# Altium footprint library Hot-Swap_Solutions_PcbLib.PcbLib: 2 footprints
Each footprint in its own frame and in the unit in brackets; x right, y up, seen from the top. Pads: shape width x height; smd on the part's side, far side on the other; paste and mask are expansions set on the pad; w line width, h text height; cw(c..) or ccw(c..) is an arc to the next point about the centre after c.
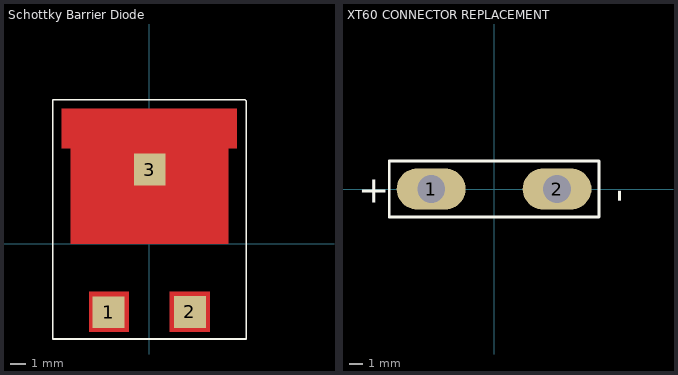
[diagram p0: the footprints below, top view; thin cyan lines are the x and y axes]

## Schottky Barrier Diode [mm]
pads (3):
  rect 2x2 smd: 1(-2.565,-4.293) 2(2.54,-4.267) 3(0.025,4.674)
Top Layer:
  region: 1.29,-3 3.79,-3 3.79,-5.5 1.29,-5.5
  region: -1.29,-3 -3.79,-3 -3.79,-5.5 -1.29,-5.5
  region: -4.95,0 -4.95,6 -5.5,6 -5.5,8.5 5.5,8.5 5.5,6 4.95,6 4.95,0
  pour cut-out: 3.4,3.8
  pour cut-out: 0.4,4.6
  region: 0.254,6.35
  pour cut-out: 3.4,3.8
  pour cut-out: 0.4,4.6
  region: 0.254,6.35
  pour cut-out: -0.483,5.029
  pour cut-out: 0.686,6.045
  region: -5.486,7.061
  region: -5.486,7.061
Top Overlay:
  lines w0.1: -6.071,-5.969 6.071,-5.969 6.071,8.992 6.02,9.042 -6.071,9.042 -6.071,-5.969
Top Solder:
  pour cut-out: -4,6.9
  region: 1.4,3.8
  region: 1.1,3.6
  region: -4,9.6
  region: 2.6,8.3
  region: -4.064,6.604
  region: -5.461,6.604
  pour cut-out: -4,6.9
  region: 1.4,3.8
  region: 1.1,3.6
  region: -4,9.6
  region: 2.6,8.3
  region: -4.064,6.604
  region: -5.461,6.604
Multi-Layer:
  region: 8.534,-0.229
  region: 3.112,12.869

## XT60 CONNECTOR REPLACEMENT [mm]
pads (2):
  oval 5x3 hole 2: 1(-4.572,0) 2(4.572,0)
Top Overlay:
  lines w0.2: -7.62,-2.032 7.62,-2.032 7.62,1.722 7.62,2.032 -7.62,2.032 -7.62,0.178 -7.62,-2.032
  text "-" at 9.906,-1.016 h2
  text "+" at -9.881,-1.016 h2
Bottom Overlay:
  text "-" at 9.906,-1.016 h2
  text "+" at -9.906,-1.016 h2